# EAGLE library part MA05-2-SMD (library cdp)
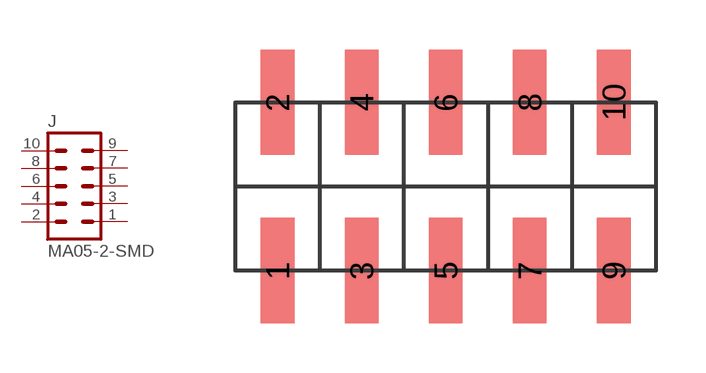
[diagram p35: symbol with the pads of M20-87605XX; footprint M20-87605XX]

Designator prefix J

## MA05-2-SMD  [M20-87605XX]
1  1  pas
2  2  pas
3  3  pas
4  4  pas
5  5  pas
6  6  pas
7  7  pas
8  8  pas
9  9  pas
10  10  pas

## Footprint M20-87605XX (pad centres in mm)
smd 1.016 x 3.175: 1 -5.08,-2.54; 2 -5.08,2.54; 3 -2.54,-2.54; 4 -2.54,2.54; 5 0,-2.54; 6 0,2.54; 7 2.54,-2.54; 8 2.54,2.54; 9 5.08,-2.54; 10 5.08,2.54